# EAGLE library part CONN_08 (library dawidkulpa_con)
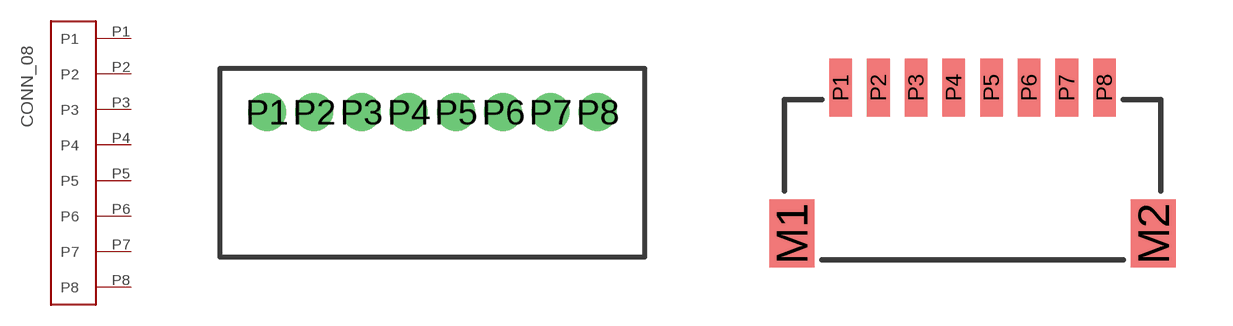
[diagram p13: symbol with the pads of JST-ZH-S8; footprints JST-ZH-S8, JST-SR-S8]

Designator prefix -

## CONN_08JST-ZHS  [JST-ZH-S8]
P1  P1
P2  P2
P3  P3
P4  P4
P5  P5
P6  P6
P7  P7
P8  P8

## CONN_08JST-SRS  [JST-SR-S8]
Pads as for JST-ZH-S8

## Footprint JST-ZH-S8 (pad centres in mm)
drill 0.7 pad 1.2: P1 -5.25,0; P2 -3.75,0; P3 -2.25,0; P4 -0.75,0; P5 0.75,0; P6 2.25,0; P7 3.75,0; P8 5.25,0

## Footprint JST-SR-S8 (pad centres in mm)
smd 1.2 x 1.8: M1 -4.8,-3.875; M2 4.8,-3.875
smd 0.6 x 1.55: P1 -3.5,0; P2 -2.5,0; P3 -1.5,0; P4 -0.5,0; P5 0.5,0; P6 1.5,0; P7 2.5,0; P8 3.5,0